# EAGLE library part X02_256 (library controller)
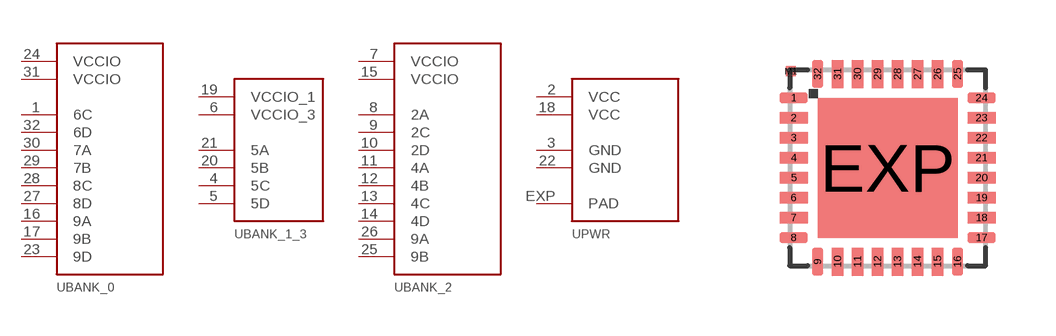
[diagram p4: symbol with the pads of HVQFN32; footprint HVQFN32]

Designator prefix -; gates BANK_0=X02_BANK_0 BANK_1_3=X02_BANK_1_3 BANK_2=X02_BANK_2 PWR=X02_PWR_2+2

## X02_256  [HVQFN32]
1  BANK_0:6C
2  PWR:VCC  pwr
3  PWR:GND  pwr
4  BANK_1_3:5C
5  BANK_1_3:5D
6  BANK_1_3:VCCIO_3  pwr
7  BANK_2:VCCIO  pwr
8  BANK_2:2A
9  BANK_2:2C
10  BANK_2:2D
11  BANK_2:4A
12  BANK_2:4B
13  BANK_2:4C
14  BANK_2:4D
15  BANK_2:VCCIO  pwr
16  BANK_0:9A
17  BANK_0:9B
18  PWR:VCC  pwr
19  BANK_1_3:VCCIO_1  pwr
20  BANK_1_3:5B
21  BANK_1_3:5A
22  PWR:GND  pwr
23  BANK_0:9D
24  BANK_0:VCCIO
25  BANK_2:9B
26  BANK_2:9A
27  BANK_0:8D
28  BANK_0:8C
29  BANK_0:7B
30  BANK_0:7A
31  BANK_0:VCCIO
32  BANK_0:6D
EXP  PWR:PAD

## Footprint HVQFN32 (pad centres in mm)
HVQFN32 (SOT617-3) 5 x 5 x .85 mm, Pitch 0.5mm Source: http://www.semiconductors.philips.com/acrobat_download/datasheets/TDA9885_TDA9886_2.pdf
smd 0.7 x 0.28: 1 -2.35,1.75; 2 -2.35,1.25; 3 -2.35,0.75; 4 -2.35,0.25; 5 -2.35,-0.25; 6 -2.35,-0.75; 7 -2.35,-1.25; 8 -2.35,-1.75; 17 2.35,-1.75; 18 2.35,-1.25; 19 2.35,-0.75; 20 2.35,-0.25; 21 2.35,0.25; 22 2.35,0.75; 23 2.35,1.25; 24 2.35,1.75
smd 0.28 x 0.7: 9 -1.75,-2.35; 10 -1.25,-2.35; 11 -0.75,-2.35; 12 -0.25,-2.35; 13 0.25,-2.35; 14 0.75,-2.35; 15 1.25,-2.35; 16 1.75,-2.35; 25 1.75,2.35; 26 1.25,2.35; 27 0.75,2.35; 28 0.25,2.35; 29 -0.25,2.35; 30 -0.75,2.35; 31 -1.25,2.35; 32 -1.75,2.35
smd 3.5 x 3.5: EXP 0,0
smd 0.25 x 0.25: M1 -2.415,2.415